# Altium footprint library PCB - THT - 2-1825027-0.PCBLIB: 1 footprints
Each footprint in its own frame and in the unit in brackets; x right, y up, seen from the top. Pads: shape width x height; smd on the part's side, far side on the other; paste and mask are expansions set on the pad; w line width, h text height; cw(c..) or ccw(c..) is an arc to the next point about the centre after c.
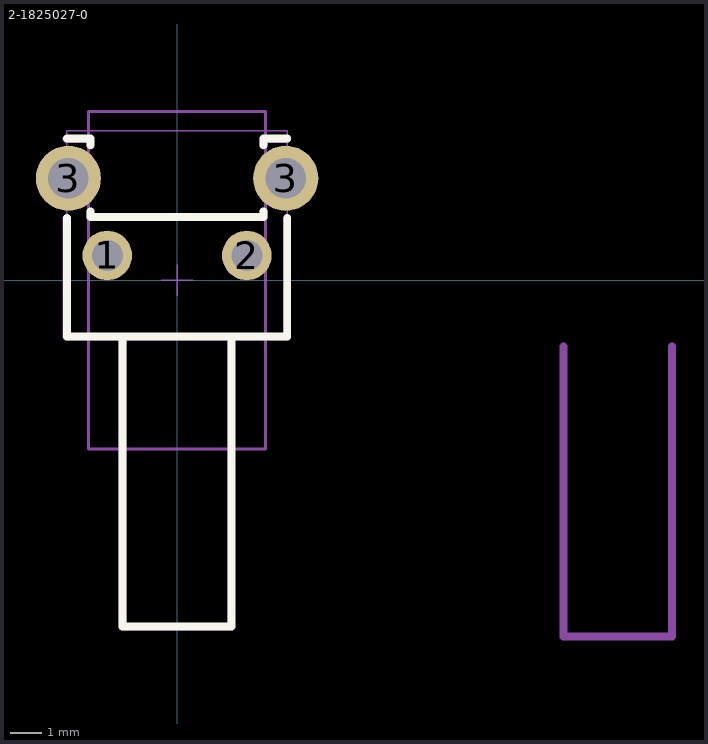
[diagram p0: the footprint, top view; thin cyan lines are the x and y axes]

## 2-1825027-0 [mm]
pads (4):
  round 1.6 hole 1: 1(-2.25,0.8) 2(2.25,0.8)
  round 2.1 hole 1.3: 3(-3.505,3.29) 3(3.505,3.29)
Top Overlay:
  lines w0.254: -3.555,2.01 -3.555,-1.81 3.555,-1.81 3.555,2.01 ; -3.555,4.57 -2.794,4.57 -2.794,4.355 ; -2.794,2.225 -2.794,2.045 2.794,2.045 2.794,2.225 ; -1.755,-1.81 -1.755,-11.163 1.755,-11.163 1.755,-1.81 ; 2.794,4.355 2.794,4.57 3.555,4.57
Top Assembly:
  lines w0.254: -3.56,1.996 -3.56,-1.823 3.55,-1.823 3.55,1.996 ; -3.56,4.557 -2.799,4.557 -2.799,4.342 ; -2.799,2.211 -2.799,2.031 2.789,2.031 2.789,2.211 ; -1.76,-1.823 -1.76,-11.177 1.75,-11.177 1.75,-1.823 ; 2.789,4.342 2.789,4.557 3.55,4.557
Bottom Assembly:
  lines w0.254: 12.461,-2.14 12.461,-11.493 15.971,-11.493 15.971,-2.14
Top Courtyard:
  lines w0.05: -1.76,-1.823 -1.76,-11.177 1.75,-11.177 1.75,-1.823 ; -3.56,-1.823 3.55,-1.823 3.55,4.825 -3.56,4.825 -3.56,-1.823
Top Designator:
  text ".Designator" at -2.8,-1.1 h0.76
Top Component Center:
  lines w0.05: -0.5,0 0.5,0 ; 0,-0.5 0,0.5
Mechanical 20:
  lines w0.1: -2.855,-5.445 2.855,-5.445 2.855,5.445 -2.855,5.445 -2.855,-5.445
3D body "1825027-2.stp": height 7, standoff -3.52, extent -4.154,-2.309 4.254,4.841